# Altium schematic symbol library Others.SchLib: 17 symbols
Pins are listed as number, name and electrical type; pins without a type are passive.

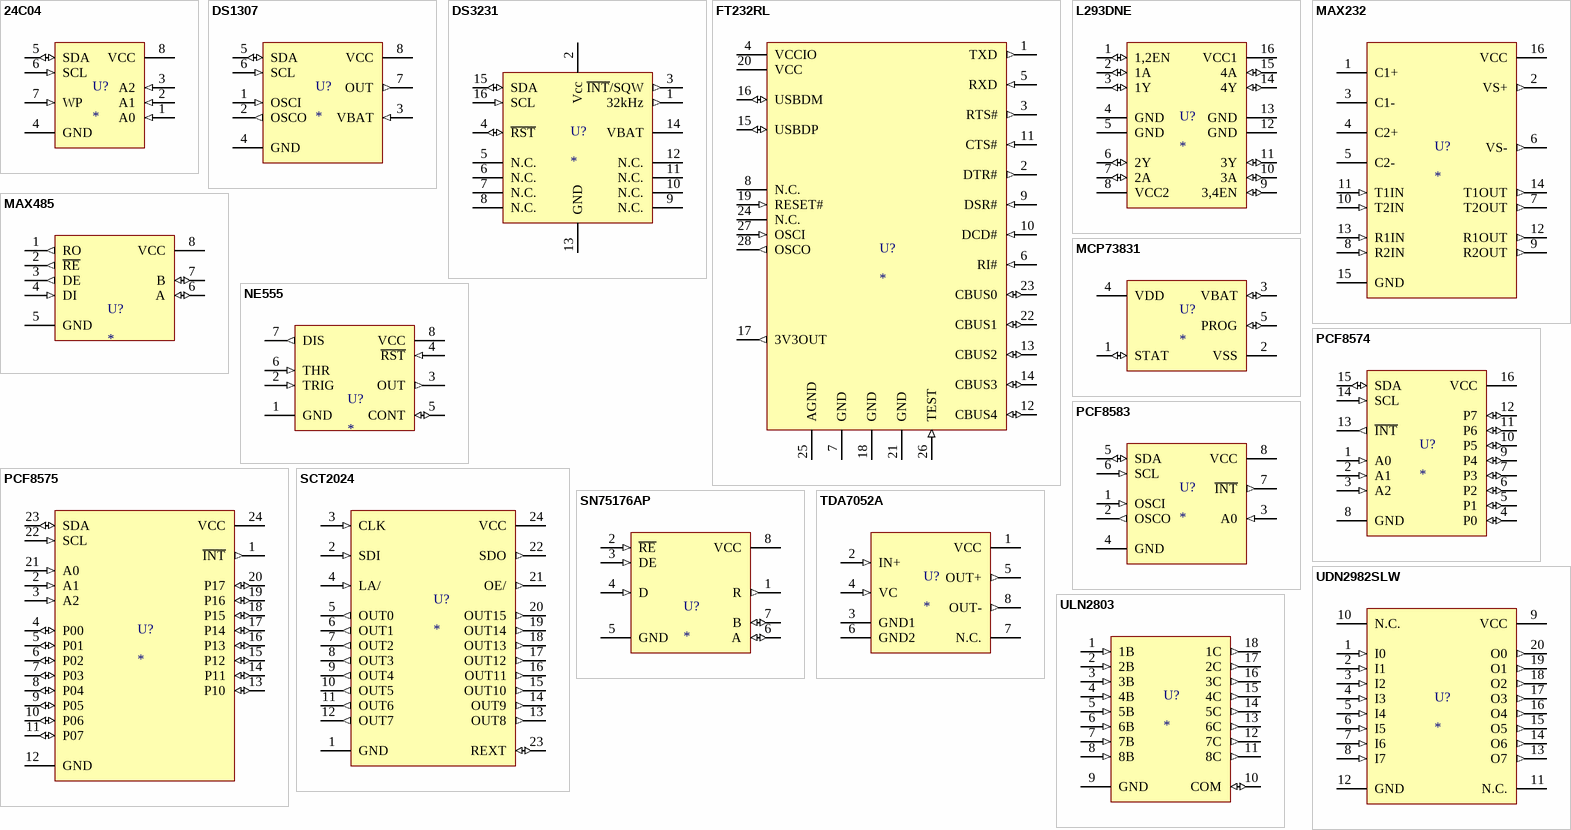
[diagram p0: symbols 24C04 to ULN2803]

## 24C04
designator U?
footprint DIP-8
footprint SO-8
footprint TSSOP-8
pins: 1 A0 (in), 2 A1 (in), 3 A2 (in), 4 GND (power), 5 SDA (io), 6 SCL (in), 7 WP (in), 8 VCC (power)

## DS1307
designator U?
footprint DIP-8
footprint SO-8
pins: 1 OSCI (in), 2 OSCO (out), 3 VBAT (in), 4 GND (power), 5 SDA (io), 6 SCL (in), 7 OUT (out), 8 VCC (power)

## DS3231
designator U?
footprint SO-16W
pins: 1 32kHz (out), 2 Vcc (power), 3 ~{INT}/SQW (out), 4 ~{RST} (io), 5 N.C. (power), 6 N.C. (power), 7 N.C. (power), 8 N.C. (power), 9 N.C. (power), 10 N.C. (power), 11 N.C. (power), 12 N.C. (power), 13 GND (power), 14 VBAT (power), 15 SDA (io), 16 SCL (in)

## FT232RL
designator U?
footprint SSOP-28
pins: 1 TXD (out), 2 DTR# (out), 3 RTS# (out), 4 VCCIO (power), 5 RXD (in), 6 RI# (in), 7 GND (power), 8 N.C., 9 DSR# (in), 10 DCD# (in), 11 CTS# (in), 12 CBUS4 (io), 13 CBUS2 (io), 14 CBUS3 (io), 15 USBDP (io), 16 USBDM (io), 17 3V3OUT (out), 18 GND (power), 19 RESET# (in), 20 VCC (power), 21 GND (power), 22 CBUS1 (io), 23 CBUS0 (io), 24 N.C., 25 AGND (power), 26 TEST (in), 27 OSCI (in), 28 OSCO (out)

## L293DNE
designator U?
footprint DIP-16
pins: 1 1,2EN (io), 2 1A (io), 3 1Y (io), 4 GND (power), 5 GND (power), 6 2Y (io), 7 2A (io), 8 VCC2 (power), 9 3,4EN (io), 10 3A (io), 11 3Y (io), 12 GND (power), 13 GND (power), 14 4Y (io), 15 4A (io), 16 VCC1 (power)

## MAX232
designator U?
footprint SO-16
footprint SO-16W
footprint DIP-16
pins: 1 C1+, 2 VS+ (out), 3 C1-, 4 C2+ (power), 5 C2-, 6 VS- (out), 7 T2OUT (out), 8 R2IN (in), 9 R2OUT (out), 10 T2IN (in), 11 T1IN (in), 12 R1OUT (out), 13 R1IN (in), 14 T1OUT (out), 15 GND (power), 16 VCC (power)

## MAX485
designator U?
footprint DIP-8
footprint SO-8
pins: 1 RO (out), 2 ~{RE} (out), 3 DE (out), 4 DI (in), 5 GND (power), 6 A (io), 7 B (io), 8 VCC (power)

## MCP73831
designator U?
footprint SOT-23-5
pins: 1 STAT (io), 2 VSS (power), 3 VBAT (io), 4 VDD (power), 5 PROG (io)

## NE555
designator U?
footprint DIP-8
footprint SO-8
pins: 1 GND (power), 2 TRIG (in), 3 OUT (out), 4 ~{RST} (in), 5 CONT (io), 6 THR (in), 7 DIS (out), 8 VCC (power)

## PCF8574
designator U?
footprint DIP-16
footprint SO-16
pins: 1 A0 (in), 2 A1 (in), 3 A2 (in), 4 P0 (io), 5 P1 (io), 6 P2 (io), 7 P3 (io), 8 GND (power), 9 P4 (io), 10 P5 (io), 11 P6 (io), 12 P7 (io), 13 ~{INT} (out), 14 SCL (in), 15 SDA (io), 16 VCC (power)

## PCF8575
designator U?
footprint SO-24
footprint TSSOP-24
pins: 1 ~{INT} (out), 2 A1 (in), 3 A2 (in), 4 P00 (io), 5 P01 (io), 6 P02 (io), 7 P03 (io), 8 P04 (io), 9 P05 (io), 10 P06 (io), 11 P07 (io), 12 GND (power), 13 P10 (io), 14 P11 (io), 15 P12 (io), 16 P13 (io), 17 P14 (io), 18 P15 (io), 19 P16 (io), 20 P17 (io), 21 A0 (in), 22 SCL (in), 23 SDA (io), 24 VCC (power)

## PCF8583
designator U?
footprint DIP-8
footprint SO-8
footprint SO-8T
pins: 1 OSCI (in), 2 OSCO (out), 3 A0 (in), 4 GND (power), 5 SDA (io), 6 SCL (in), 7 ~{INT} (out), 8 VCC (power)

## SCT2024
designator U?
footprint SSOP-24
footprint SO-24
pins: 1 GND (power), 2 SDI (in), 3 CLK (in), 4 LA/ (in), 5 OUT0 (out), 6 OUT1 (out), 7 OUT2 (out), 8 OUT3 (out), 9 OUT4 (out), 10 OUT5 (out), 11 OUT6 (out), 12 OUT7 (out), 13 OUT8 (out), 14 OUT9 (out), 15 OUT10 (out), 16 OUT11 (out), 17 OUT12 (out), 18 OUT13 (out), 19 OUT14 (out), 20 OUT15 (out), 21 OE/ (out), 22 SDO (out), 23 REXT (io), 24 VCC (power)

## SN75176AP
designator U?
footprint DIP-8
footprint SO-8
pins: 1 R (out), 2 ~{RE} (in), 3 DE (in), 4 D (in), 5 GND (power), 6 A (io), 7 B (io), 8 VCC (power)

## TDA7052A
designator U?
footprint SO-8
footprint DIP-8
pins: 1 VCC (power), 2 IN+ (in), 3 GND1 (power), 4 VC (in), 5 OUT+ (out), 6 GND2 (power), 7 N.C., 8 OUT- (out)

## UDN2982SLW
designator U?
footprint SO-20
pins: 1 I0 (in), 2 I1 (in), 3 I2 (in), 4 I3 (in), 5 I4 (in), 6 I5 (in), 7 I6 (in), 8 I7 (in), 9 VCC (power), 10 N.C., 11 N.C., 12 GND (power), 13 O7 (out), 14 O6 (out), 15 O5 (out), 16 O4 (out), 17 O3 (out), 18 O2 (out), 19 O1 (out), 20 O0 (out)

## ULN2803
designator U?
footprint DIP-18
footprint SO-18
pins: 1 1B (in), 2 2B (in), 3 3B (in), 4 4B (in), 5 5B (in), 6 6B (in), 7 7B (in), 8 8B (in), 9 GND (power), 10 COM (io), 11 8C (out), 12 7C (out), 13 6C (out), 14 5C (out), 15 4C (out), 16 3C (out), 17 2C (out), 18 1C (out)